# EAGLE library part L298N (library L298N)
Controlador de Motores Puente H L298N
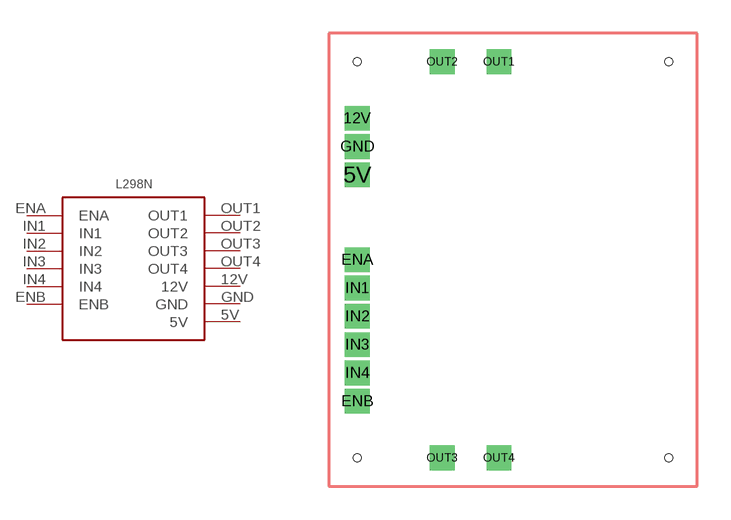
[diagram p0: symbol with the pads of L298N-F; footprint L298N-F]

Designator prefix -

## L298N  [L298N-F]
5V  5V
12V  12V
ENA  ENA
ENB  ENB
GND  GND
IN1  IN1
IN2  IN2
IN3  IN3
IN4  IN4
OUT1  OUT1
OUT2  OUT2
OUT3  OUT3
OUT4  OUT4

## Footprint L298N-F (pad centres in mm)
drill 0.6 square: 5V -13.97,6.35; 12V -13.97,8.89; ENA -13.97,2.54; ENB -13.97,-3.81; GND -13.97,7.62; IN1 -13.97,1.27; IN2 -13.97,0; IN3 -13.97,-1.27; IN4 -13.97,-2.54; OUT1 -7.62,11.43; OUT2 -10.16,11.43; OUT3 -10.16,-6.35; OUT4 -7.62,-6.35
hole 0.35 at -13.97,11.43
hole 0.35 at -13.97,-6.35
hole 0.35 at 0,11.43
hole 0.35 at 0,-6.35